# EAGLE library part IF_RS485_XCVR_1CH_HD (library !GPLIB_ACTIVE)
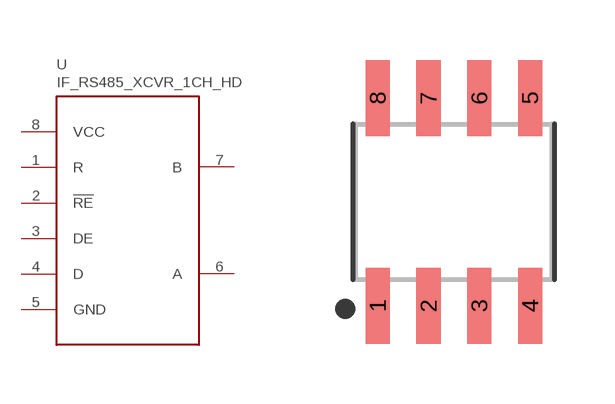
[diagram p32: symbol with the pads of SOIC-8P; footprint SOIC-8P]

Designator prefix U

## IF_RS485_XCVR_1CH_HD_SN65HVD75DR  [SOIC-8P]
1  R  out
2  !RE  in
3  DE  in
4  D  in
5  GND  pwr
6  A
7  B
8  VCC  pwr

## IF_RS485_XCVR_1CH_HD_SP3485EN-L/TR  [SOIC-8P]
Pads as for SOIC-8P

## IF_RS485_XCVR_1CH_HD_SP485EEN-L/TR  [SOIC-8P]
Pads as for SOIC-8P

## Footprint SOIC-8P (pad centres in mm)
8-SOIC, 1.27 mm pitch, 6.00 mm span, 4.90 X 3.90 X 1.75 mm body 8-pin SOIC package with 1.27 mm pitch, 6.00 mm span with body size 4.90 X 3.90 X 1.75 mm
smd 0.602 x 1.904: 1 -1.905,-2.6; 2 -0.635,-2.6; 3 0.635,-2.6; 4 1.905,-2.6; 5 1.905,2.6; 6 0.635,2.6; 7 -0.635,2.6; 8 -1.905,2.6